# Altium footprint library A.PcbLib: 31 footprints (part 2 of 2)
Each footprint in its own frame and in the unit in brackets; x right, y up, seen from the top. Pads: shape width x height; smd on the part's side, far side on the other; paste and mask are expansions set on the pad; w line width, h text height; cw(c..) or ccw(c..) is an arc to the next point about the centre after c.
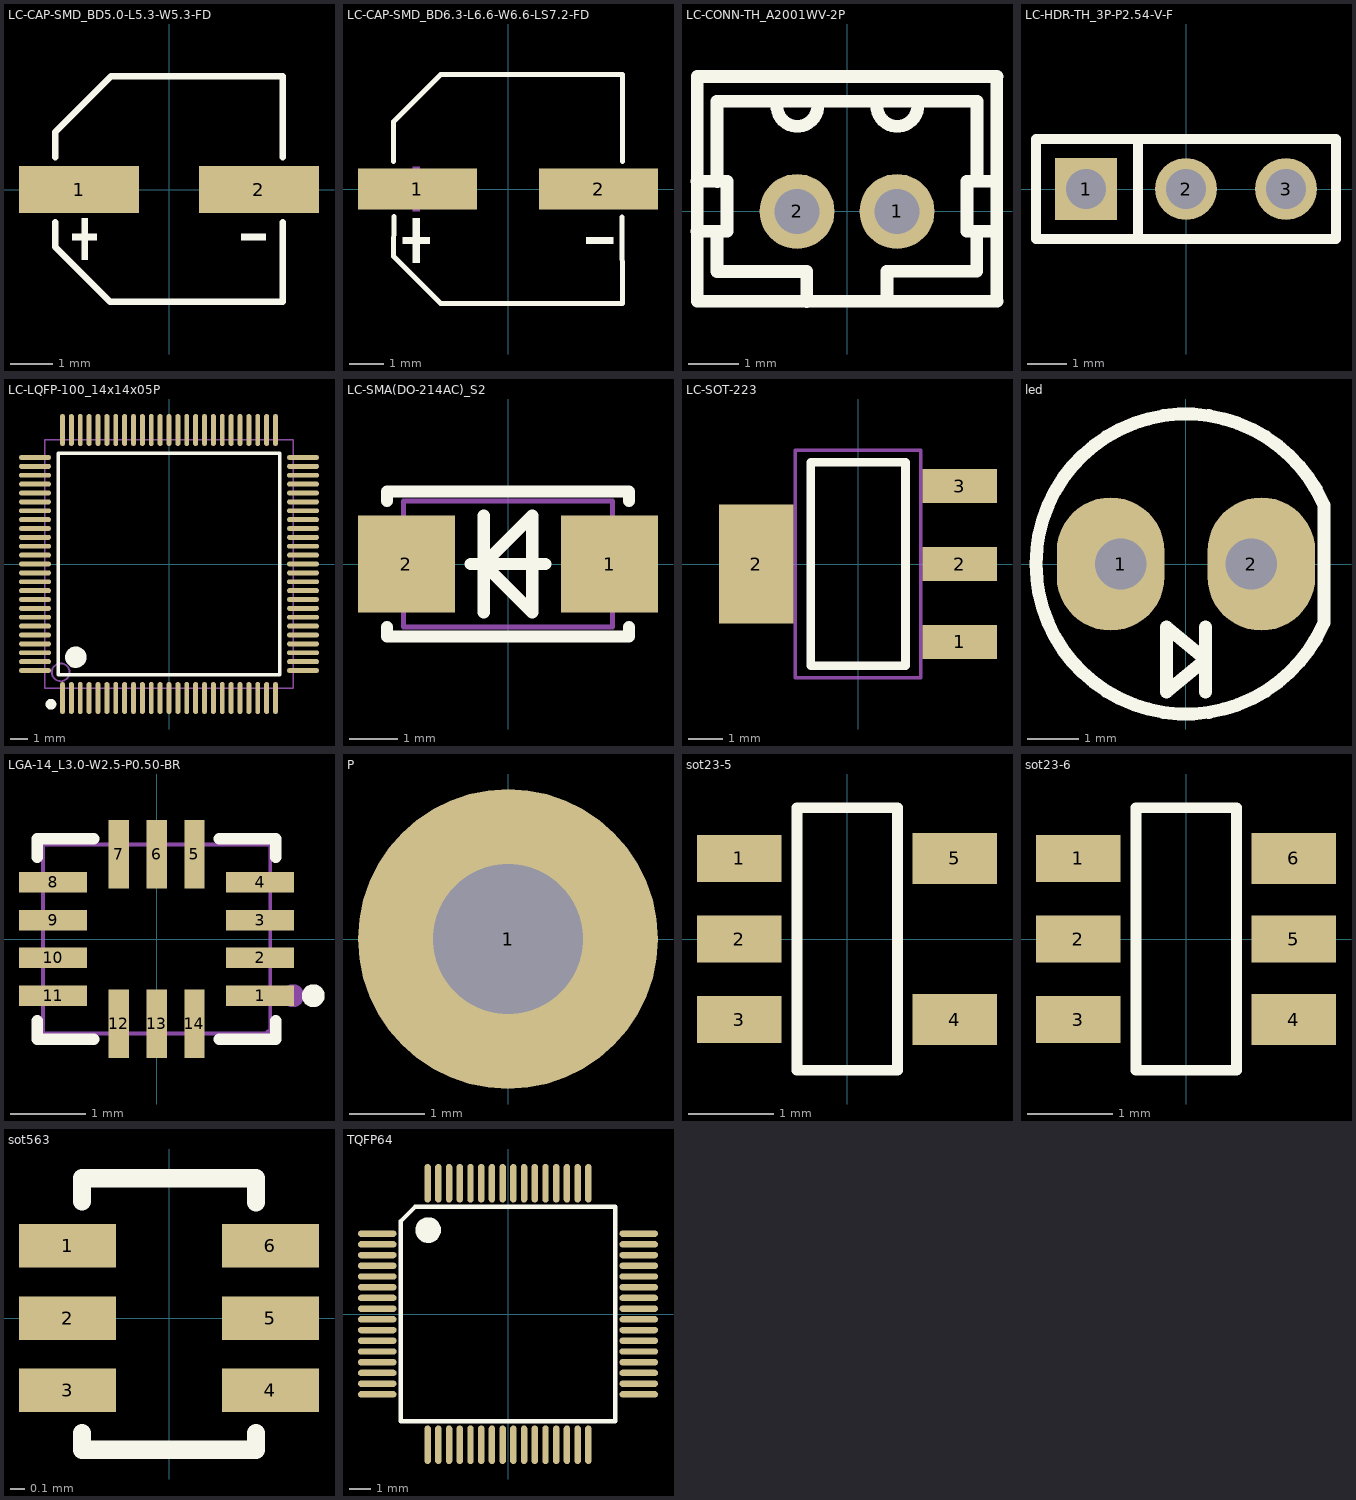
[diagram p1: the footprints below, top view; thin cyan lines are the x and y axes]

## LC-CAP-SMD_BD5.0-L5.3-W5.3-FD [mm]
height 2
pads (2):
  rect 2.8x1.1 smd: 1(-2.1,0) 2(2.1,0)
Top Overlay:
  region: -2.04,-0.67 -2.04,-1.63 -1.897,-1.63 -1.897,-0.67
  region: -2.256,-1.032 -2.256,-1.176 -1.68,-1.176 -1.68,-1.032
  region: 2.256,-1.032 2.256,-1.176 1.68,-1.176 1.68,-1.032
  lines w0.152: -2.659,-0.762 -2.659,-1.331 -1.372,-2.619 2.649,-2.619 2.649,-0.762 ; -2.659,0.762 -2.659,1.341 -1.349,2.649 2.659,2.649 2.659,0.762
Mechanical 15:
  region: -2.04,0.48 -2.04,-0.48 -1.896,-0.48 -1.896,0.48
  region: -2.256,0.072 -2.256,-0.072 -1.68,-0.072 -1.68,0.072
  region: 2.256,0.072 2.256,-0.072 1.68,-0.072 1.68,0.072

## LC-CAP-SMD_BD6.3-L6.6-W6.6-LS7.2-FD [mm]
height 2
pads (2):
  rect 3.5x1.2 smd: 1(-2.67,0) 2(2.67,0)
Top Overlay:
  region: -2.805,-0.858 -2.805,-2.178 -2.607,-2.178 -2.607,-0.858
  region: -3.102,-1.419 -3.102,-1.617 -2.31,-1.617 -2.31,-1.419
  region: 3.102,-1.419 3.102,-1.617 2.31,-1.617 2.31,-1.419
  lines w0.152: -3.376,0.816 -3.376,1.98 -1.98,3.376 3.376,3.376 3.37,0.809 ; -3.364,-0.809 -3.376,-1.981 -1.981,-3.376 3.376,-3.376 3.356,-0.832
Mechanical 15:
  region: -2.805,0.66 -2.805,-0.66 -2.607,-0.66 -2.607,0.66
  region: -3.102,0.099 -3.102,-0.099 -2.31,-0.099 -2.31,0.099
  region: 3.102,0.099 3.102,-0.099 2.31,-0.099 2.31,0.099

## LC-CONN-TH_A2001WV-2P [mm]
height 2
pads (2):
  round 1.5 hole 0.9: 1(1,0) 2(-1,0)
Top Overlay:
  lines w0.254: -3.002,-0.398 -2.402,-0.398 -2.402,0.602 -3.002,0.602 ; -2.602,-0.4 -2.602,-1.2 -0.806,-1.2 -0.806,-1.802 -0.805,-1.803 ; -2.6,0.6 -2.601,0.599 -2.601,2.202 2.601,2.202 2.601,0.602 ; -1.395,2.203 ccw(c-0.995,2.113) -0.595,2.203 ; 0.605,2.203 ccw(c1.005,2.113) 1.405,2.203 ; 0.798,-1.798 0.799,-1.797 0.799,-1.195 2.595,-1.195 2.595,-0.395 ; 2.998,-1.798 2.998,2.702 ; 2.998,-0.398 2.398,-0.398 2.398,0.602 2.998,0.602 ; 3,-1.799 -3,-1.799 -3,2.702 3,2.702

## LC-HDR-TH_3P-P2.54-V-F [mil]
height 78.74
pads (3):
  rect 62x62 hole 40.16: 1(-100,0)
  round 62 hole 40.16: 2(0,0) 3(100,0)
Top Overlay:
  lines w10: -48.09,-50 -48.09,50 ; -150,-50 -150,50 150,50 150,-50 -150,-50

## LC-LQFP-100_14x14x05P [mm]
height 2
pads (100):
  oval 0.28x1.8 smd mask+0.051: 1(-6,-7.55) 2(-5.5,-7.55) 3(-5,-7.55) 4(-4.5,-7.55) 5(-4,-7.55) 6(-3.5,-7.55) 7(-3,-7.55) 8(-2.5,-7.55) 9(-2,-7.55) 10(-1.5,-7.55) 11(-1,-7.55) 12(-0.5,-7.55) 13(0,-7.55) 14(0.5,-7.55) 15(1,-7.55) 16(1.5,-7.55) 17(2,-7.55) 18(2.5,-7.55) 19(3,-7.55) 20(3.5,-7.55) 21(4,-7.55) 22(4.5,-7.55) 23(5,-7.55) 24(5.5,-7.55) 25(6,-7.55) 51(6,7.55) 52(5.5,7.55) 53(5,7.55) 54(4.5,7.55) 55(4,7.55) 56(3.5,7.55) 57(3,7.55) 58(2.5,7.55) 59(2,7.55) 60(1.5,7.55) 61(1,7.55) 62(0.5,7.55) 63(0,7.55) 64(-0.5,7.55) 65(-1,7.55) 66(-1.5,7.55) 67(-2,7.55) 68(-2.5,7.55) 69(-3,7.55) 70(-3.5,7.55) 71(-4,7.55) 72(-4.5,7.55) 73(-5,7.55) 74(-5.5,7.55) 75(-6,7.55)
  oval 1.8x0.28 smd mask+0.051: 26(7.55,-6) 27(7.55,-5.5) 28(7.55,-5) 29(7.55,-4.5) 30(7.55,-4) 31(7.55,-3.5) 32(7.55,-3) 33(7.55,-2.5) 34(7.55,-2) 35(7.55,-1.5) 36(7.55,-1) 37(7.55,-0.5) 38(7.55,0) 39(7.55,0.5) 40(7.55,1) 41(7.55,1.5) 42(7.55,2) 43(7.55,2.5) 44(7.55,3) 45(7.55,3.5) 46(7.55,4) 47(7.55,4.5) 48(7.55,5) 49(7.55,5.5) 50(7.55,6) 76(-7.55,6) 77(-7.55,5.5) 78(-7.55,5) 79(-7.55,4.5) 80(-7.55,4) 81(-7.55,3.5) 82(-7.55,3) 83(-7.55,2.5) 84(-7.55,2) 85(-7.55,1.5) 86(-7.55,1) 87(-7.55,0.5) 88(-7.55,0) 89(-7.55,-0.5) 90(-7.55,-1) 91(-7.55,-1.5) 92(-7.55,-2) 93(-7.55,-2.5) 94(-7.55,-3) 95(-7.55,-3.5) 96(-7.55,-4) 97(-7.55,-4.5) 98(-7.55,-5) 99(-7.55,-5.5) 100(-7.55,-6)
Top Overlay:
  circle w0.3: c-6.65,-7.9 r0.15
  circle w0.6: c-5.25,-5.25 r0.3
  lines w0.2: -6.25,-6.25 6.25,-6.25 6.25,6.25 -6.25,6.25 -6.25,-6.25
Mechanical 13:
  circle w0.1: c-6.1,-6.1 r0.5
  lines w0.1: -7,-7 7,-7 7,7 -7,7 -7,-7

## LC-SMA(DO-214AC)_S2 [mm]
height 2
pads (2):
  rect 2x2 smd: 1(2.1,0) 2(-2.1,0)
Top Overlay:
  lines w0.254: -2.5,-1.3 -2.5,-1.5 2.5,-1.5 2.5,-1.3 ; -2.5,1.3 -2.5,1.5 2.5,1.5 2.5,1.3 ; -0.77,0 0.77,0 ; -0.5,-1 -0.5,1 ; -0.5,0 0.5,-1 0.5,1 -0.5,0
Mechanical 13:
  lines w0.1: -2.16,-1.3 2.16,-1.3 2.16,1.3 -2.16,1.3 -2.16,-1.3

## LC-SOT-223 [mm]
height 2
pads (4):
  rect 2.2x1 smd: 1(3,-2.3) 2(3,0) 3(3,2.3)
  rect 2.2x3.5 smd: 2(-3,0)
Top Overlay:
  lines w0.254: -1.4,-3 -1.4,3 1.4,3 1.4,-3 -1.4,-3
Mechanical 13:
  lines w0.1: -1.85,-3.35 1.85,-3.35 1.85,3.35 -1.85,3.35 -1.85,-3.35
3D body: height 1.64, standoff -0.04, extent -3.49,-3.242 3.49,3.243

## led [mm]
pads (2):
  oval 2.1x2.6 hole 1 copper offset -0.2,0: 1(-1.27,0)
  oval 2.1x2.6 hole 1 copper offset 0.2,0: 2(1.27,0)
Top Overlay:
  lines w0.254: 0.381,-2.498 0.381,-1.228 ; -0.381,-2.498 -0.381,-1.228 0.381,-1.863 -0.381,-2.498 ; 2.689,-1.152 cw(c0,0) 2.689,1.152 2.689,-1.152

## LGA-14_L3.0-W2.5-P0.50-BR [mil]
height 78.74
pads (14):
  rect 35.4x10.6 smd mask+2: 1(53.9,-29.5) 2(53.9,-9.8) 3(53.9,9.8) 4(53.9,29.5) 8(-53.9,29.5) 9(-53.9,9.8) 10(-53.9,-9.8) 11(-53.9,-29.5)
  rect 10.6x35.4 smd mask+2: 5(19.7,44.1) 6(0,44.1) 7(-19.7,44.1) 12(-19.7,-44.1) 13(0,-44.1) 14(19.7,-44.1)
Top Overlay:
  circle w5.9: c81.5,-29.5 r3
  lines w6: -62.1,-42.5 -62.1,-52.2 -32.7,-52.2 ; -62.1,42.5 -62.1,52.2 -32.7,52.2 ; 32.7,-52.2 62.1,-52.2 62.1,-42.5 ; 32.7,52.2 62.1,52.2 62.1,42.5
Mechanical 6:
  circle w5.9: c70.9,-29.5 r3
Mechanical 15:
  region: 61.6,-49.2 60.84,-47.36 59,-46.6 57.16,-47.36 56.4,-49.2 57.16,-51.04 59,-51.8 60.84,-51.04
  region: 24.6,-45.3 14.8,-45.3 14.8,-26.6 24.6,-26.6
  region: 4.9,-45.3 -4.9,-45.3 -4.9,-26.6 4.9,-26.6
  region: -14.8,-45.3 -24.6,-45.3 -24.6,-26.6 -14.8,-26.6
  region: -36.4,-34.4 -55.1,-34.4 -55.1,-24.6 -36.4,-24.6
  region: -36.4,-14.8 -55.1,-14.8 -55.1,-4.9 -36.4,-4.9
  region: -36.4,4.9 -55.1,4.9 -55.1,14.8 -36.4,14.8
  region: -36.4,24.6 -55.1,24.6 -55.1,34.5 -36.4,34.5
  region: -14.8,26.6 -24.6,26.6 -24.6,45.3 -14.8,45.3
  region: 4.9,26.6 -4.9,26.6 -4.9,45.3 4.9,45.3
  region: 24.6,26.6 14.8,26.6 14.8,45.3 24.6,45.3
  region: 55.1,24.6 36.4,24.6 36.4,34.5 55.1,34.5
  region: 55.1,4.9 36.4,4.9 36.4,14.8 55.1,14.8
  region: 55.1,-14.8 36.4,-14.8 36.4,-4.9 55.1,-4.9
  region: 55.1,-34.4 36.4,-34.4 36.4,-24.6 55.1,-24.6
  lines w2: -59.1,-49.2 59.1,-49.2 59.1,49.2 -59.1,49.2 -59.1,-49.2

## P [mm]
pads (1):
  round 4 hole 2 mask+0.3: 1(0,0)

## PCBComponent_1 [mm]

## sot23-5 [mm]
pads (5):
  rect 1x0.55 smd: 1(-1.27,0.95) 2(-1.27,0) 3(-1.27,-0.95)
  rect 1x0.6 smd: 4(1.27,-0.95) 5(1.27,0.95)
Top Overlay:
  lines w0.127: -0.591,-1.55 -0.591,1.55 0.595,1.55 0.595,-1.55 -0.591,-1.55

## sot23-6 [mm]
pads (6):
  rect 1x0.55 smd: 1(-1.27,0.95) 2(-1.27,0) 3(-1.27,-0.95) 5(1.27,0)
  rect 1x0.6 smd: 4(1.27,-0.95) 6(1.27,0.95)
Top Overlay:
  lines w0.127: -0.591,-1.55 0.595,-1.55 0.595,1.55 -0.591,1.55 -0.591,-1.55

## sot563 [mm]
pads (6):
  rect 0.67x0.3 smd: 1(-0.7,0.5) 2(-0.7,0) 3(-0.7,-0.5) 4(0.7,-0.5) 5(0.7,0) 6(0.7,0.5)
Top Overlay:
  lines w0.127: -0.6,-0.796 -0.6,-0.909 0.6,-0.909 0.6,-0.793 ; -0.6,0.805 -0.6,0.965 0.6,0.965 0.6,0.798

## TQFP64 [mm]
pads (64):
  oval 1.8x0.3 smd mask+0.05: 1(-6.1,3.75) 2(-6.1,3.25) 3(-6.1,2.75) 4(-6.1,2.25) 5(-6.1,1.75) 6(-6.1,1.25) 7(-6.1,0.75) 8(-6.1,0.25) 9(-6.1,-0.25) 10(-6.1,-0.75) 11(-6.1,-1.25) 12(-6.1,-1.75) 13(-6.1,-2.25) 14(-6.1,-2.75) 15(-6.1,-3.25) 16(-6.1,-3.75) 33(6.1,-3.75) 34(6.1,-3.25) 35(6.1,-2.75) 36(6.1,-2.25) 37(6.1,-1.75) 38(6.1,-1.25) 39(6.1,-0.75) 40(6.1,-0.25) 41(6.1,0.25) 42(6.1,0.75) 43(6.1,1.25) 44(6.1,1.75) 45(6.1,2.25) 46(6.1,2.75) 47(6.1,3.25) 48(6.1,3.75)
  oval 0.3x1.8 smd mask+0.05: 17(-3.75,-6.1) 18(-3.25,-6.1) 19(-2.75,-6.1) 20(-2.25,-6.1) 21(-1.75,-6.1) 22(-1.25,-6.1) 23(-0.75,-6.1) 24(-0.25,-6.1) 25(0.25,-6.1) 26(0.75,-6.1) 27(1.25,-6.1) 28(1.75,-6.1) 29(2.25,-6.1) 30(2.75,-6.1) 31(3.25,-6.1) 32(3.75,-6.1) 49(3.75,6.1) 50(3.25,6.1) 51(2.75,6.1) 52(2.25,6.1) 53(1.75,6.1) 54(1.25,6.1) 55(0.75,6.1) 56(0.25,6.1) 57(-0.25,6.1) 58(-0.75,6.1) 59(-1.25,6.1) 60(-1.75,6.1) 61(-2.25,6.1) 62(-2.75,6.1) 63(-3.25,6.1) 64(-3.75,6.1)
Top Overlay:
  circle w0.6: c-3.724,3.915 r0.3
  lines w0.2: -5,-5 -5,4.337 -4.337,5 5,5 5,-5 -5,-5